# Altium footprint library 250Vfuse-1A1250V.PcbLib: 2 footprints
Each footprint in its own frame and in the unit in brackets; x right, y up, seen from the top. Pads: shape width x height; smd on the part's side, far side on the other; paste and mask are expansions set on the pad; w line width, h text height; cw(c..) or ccw(c..) is an arc to the next point about the centre after c.
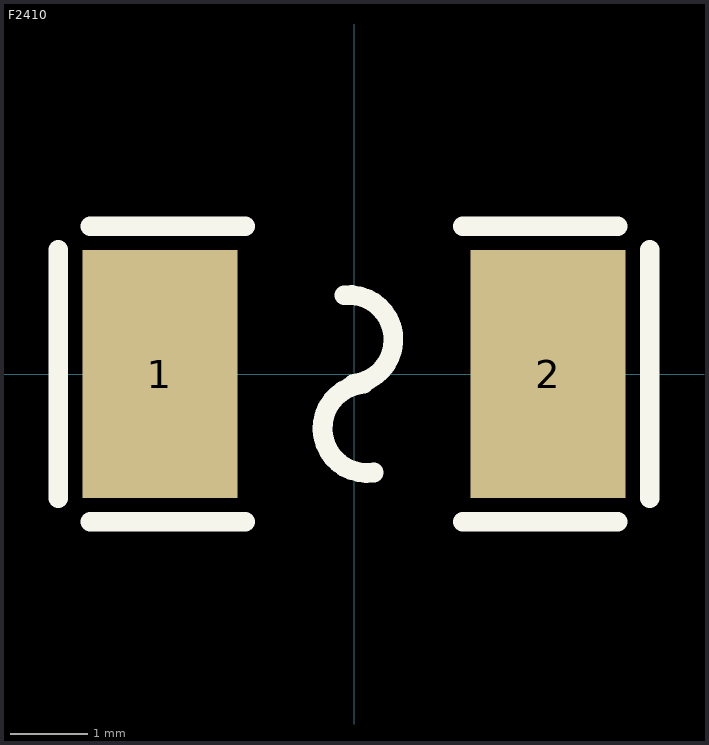
[diagram p0: the footprints below, top view; thin cyan lines are the x and y axes]

## F2410 [mm]
pads (2):
  rect 2x3.2 smd paste+0 mask+0.051: 1(-2.5,0) 2(2.5,0)
Top Overlay:
  lines w0.254: -3.81,-1.6 -3.81,1.6 ; -3.4,-1.905 -1.4,-1.905 ; -3.4,1.905 -1.4,1.905 ; -0.127,1.016 cw(c-0.067,0.444) 0,-0.127 ; 0.127,-0.127 ccw(c0.169,-0.701) 0.254,-1.27 ; 1.4,-1.905 3.4,-1.905 ; 1.4,1.905 3.4,1.905 ; 3.81,-1.6 3.81,1.6

## PCBComponent_1 [mm]